# Altium schematic symbol library n-mosfet-SSSGDDDD.Schlib: 1 symbol
Pins are listed as number, name and electrical type; pins without a type are passive.

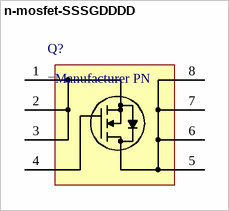
[diagram p0: symbol n-mosfet-SSSGDDDD]

## n-mosfet-SSSGDDDD
designator Q?
N-Channel MOSFET 8-pin w/ Body Diode
pins: 1 S, 2 S, 3 S, 4 G, 5 D, 6 D, 7 D, 8 D